# Altium schematic symbol library RTLSDRV3.SchLib: 1 symbol
Pins are listed as number, name and electrical type; pins without a type are passive.

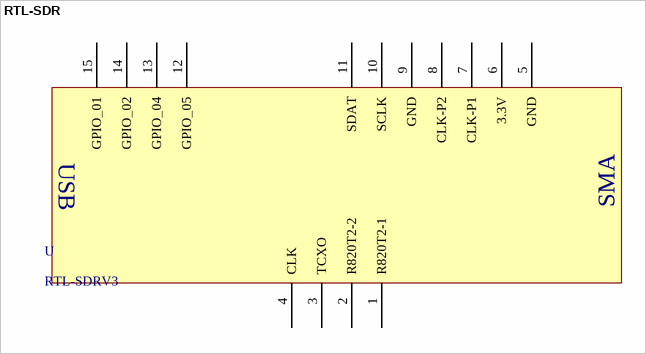
[diagram p0: symbol RTL-SDR]

## RTL-SDR
designator U, comment RTL-SDRV3
footprint RTLSDR V3 (Untested, Should work fine. Use headers with a clearance of 6.38 mm to go past the Capacitor and USB port.)
pins: 1 R820T2-1, 2 R820T2-2, 3 TCXO, 4 CLK, 5 GND, 6 3.3V, 7 CLK-P1, 8 CLK-P2, 9 GND, 10 SCLK, 11 SDAT, 12 GPIO_05, 13 GPIO_04, 14 GPIO_02, 15 GPIO_01
text: USB; SMA